# EAGLE library part MICRO-SD (library TFWF1-EBXX-1X0X)
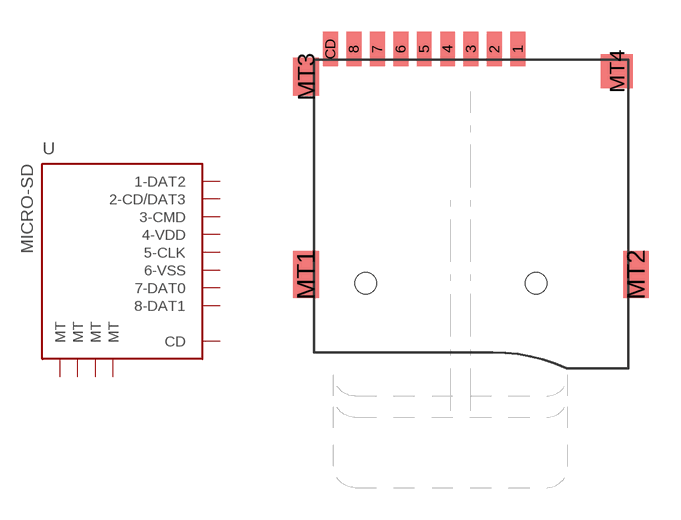
[diagram p0: symbol with the pads of TF-MICRO-SD_PP3*; footprint TF-MICRO-SD_PP3*]

Designator prefix -

## MICRO-SD3  [TF-MICRO-SD_PP3*]
1  1-DAT2
2  2-CD/DAT3
3  3-CMD
4  4-VDD
5  5-CLK
6  6-VSS
7  7-DAT0
8  8-DAT1
CD  CD
MT1  MT  pwr
MT2  MT  pwr
MT3  MT  pwr
MT4  MT  pwr

## Footprint TF-MICRO-SD_PP3* (pad centres in mm)
T-FLASH TFWF1-EBXX-1X0X
smd 0.7 x 1.6: 1 2.2,11; 2 1.1,11; 3 0,11; 4 -1.1,11; 5 -2.2,11; 6 -3.3,11; 7 -4.4,11; 8 -5.5,11; CD -6.6,11
smd 1.2 x 2.2: MT1 -7.75,0.4; MT2 7.75,0.4
smd 1.2 x 1.8: MT3 -7.75,9.7
smd 1.5 x 1.6: MT4 6.85,9.95
hole 1 at -4.95,0
hole 1 at 3.05,0